# Altium footprint library PCB1.PcbLib: 19 footprints (part 1 of 2)
Each footprint in its own frame and in the unit in brackets; x right, y up, seen from the top. Pads: shape width x height; smd on the part's side, far side on the other; paste and mask are expansions set on the pad; w line width, h text height; cw(c..) or ccw(c..) is an arc to the next point about the centre after c.
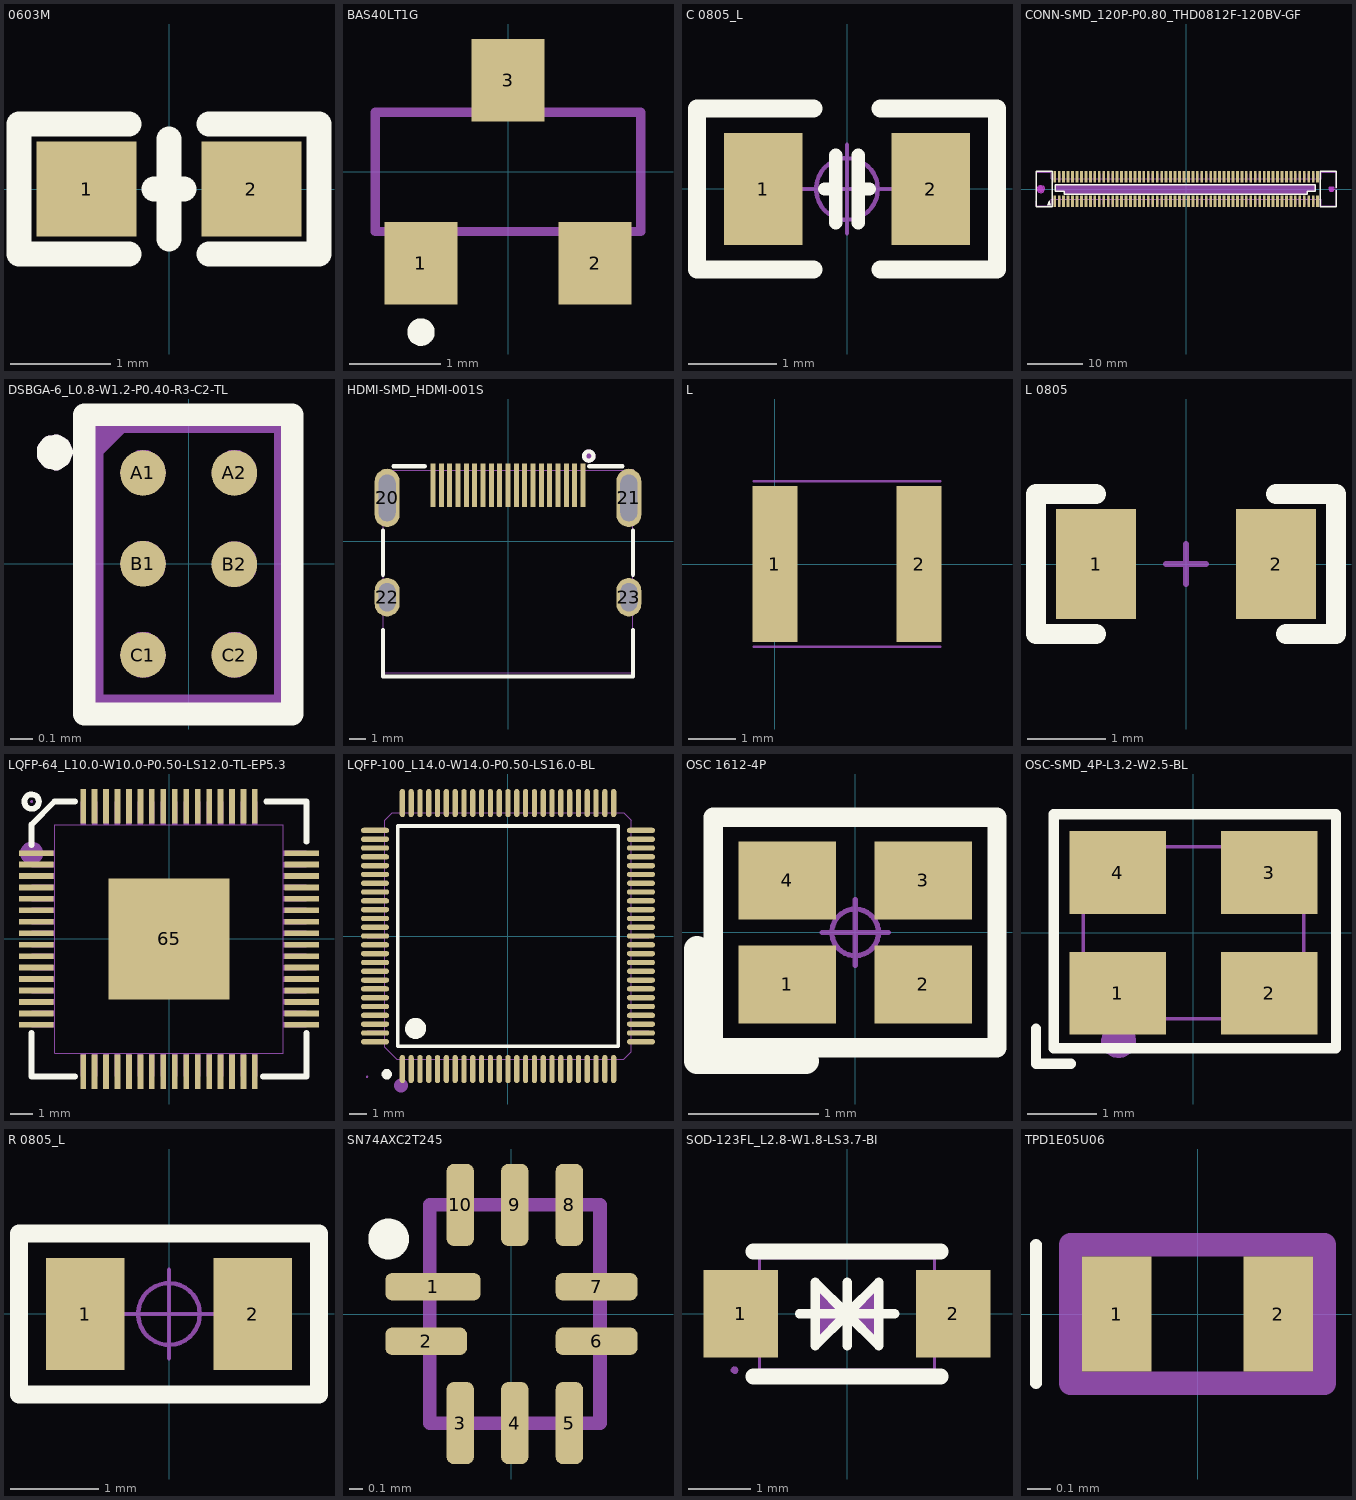
[diagram p0: the footprints below, top view; thin cyan lines are the x and y axes]

## 0603M [mm]
pads (2):
  rect 1x0.95 smd: 1(-0.825,0) 2(0.825,0)
Top Overlay:
  lines w0.254: -0.4,-0.65 -1.5,-0.65 -1.5,0.65 -0.4,0.65 ; -0.15,0 0.15,0 ; 0,-0.5 0,0.5 ; 0.4,-0.65 1.5,-0.65 1.5,0.65 0.4,0.65

## BAS40LT1G [mm]
pads (3):
  rect 0.8x0.9 smd: 1(-0.95,-1) 2(0.95,-1) 3(0,1)
Top Overlay:
  circle w0.15: c-0.95,-1.75 r0.075
Top Assembly:
  lines w0.1: -1.45,-0.65 1.45,-0.65 1.45,0.65 -1.45,0.65 -1.45,-0.65

## C 0805_L [mil] "无极性贴片电容                                        淘宝ID:黄晶宝石"
height 19.68
pads (2):
  rect 35x50 smd: 1(-37.4,0) 2(37.4,0)
Top Overlay:
  lines w6: -10,0 -5,0 ; -5,-15 -5,15 ; 5,-15 5,15 ; 5,0 10,0
  lines w8: -15,-36 -66.93,-36 -66.93,36 -15,36 ; 15,-36 66.93,-36 66.93,36 15,36
Mechanical 15:
  circle w1.97: c0,0 r13.78
  circle w1.97: c0,0 r13.78
  lines w1.97: -19.68,0 19.68,0 -19.68,0 ; 0,-19.68 0,19.68 0,-19.68
3D body "C 0805.STEP": height 20.08, standoff -0.39, extent -39.37,-24.02 39.37,24.02

## CONN-SMD_120P-P0.80_THD0812F-120BV-GF [mil]
pads (120):
  rect 19.7x78.7 smd paste+0 mask+2: 1(-929.1,-86.6) 2(-929.1,86.6) 3(-897.6,-86.6) 4(-897.6,86.6) 5(-866.1,-86.6) 6(-866.1,86.6) 7(-834.6,-86.6) 8(-834.6,86.6) 9(-803.1,-86.6) 10(-803.1,86.6) 11(-771.6,-86.6) 12(-771.6,86.6) 13(-740.1,-86.6) 14(-740.1,86.6) 15(-708.6,-86.6) 16(-708.6,86.6) 17(-677.2,-86.6) 18(-677.2,86.6) 19(-645.7,-86.6) 20(-645.7,86.6) 21(-614.2,-86.6) 22(-614.2,86.6) 23(-582.7,-86.6) 24(-582.7,86.6) 25(-551.2,-86.6) 26(-551.2,86.6) 27(-519.7,-86.6) 28(-519.7,86.6) 29(-488.2,-86.6) 30(-488.2,86.6) 31(-456.7,-86.6) 32(-456.7,86.6) 33(-425.2,-86.6) 34(-425.2,86.6) 35(-393.7,-86.6) 36(-393.7,86.6) 37(-362.2,-86.6) 38(-362.2,86.6) 39(-330.7,-86.6) 40(-330.7,86.6) 41(-299.2,-86.6) 42(-299.2,86.6) 43(-267.7,-86.6) 44(-267.7,86.6) 45(-236.2,-86.6) 46(-236.2,86.6) 47(-204.7,-86.6) 48(-204.7,86.6) 49(-173.2,-86.6) 50(-173.2,86.6) 51(-141.7,-86.6) 52(-141.7,86.6) 53(-110.2,-86.6) 54(-110.2,86.6) 55(-78.7,-86.6) 56(-78.7,86.6) 57(-47.2,-86.6) 58(-47.2,86.6) 59(-15.7,-86.6) 60(-15.7,86.6) 61(15.8,-86.6) 62(15.8,86.6) 63(47.3,-86.6) 64(47.3,86.6) 65(78.8,-86.6) 66(78.8,86.6) 67(110.2,-86.6) 68(110.2,86.6) 69(141.7,-86.6) 70(141.7,86.6) 71(173.2,-86.6) 72(173.2,86.6) 73(204.7,-86.6) 74(204.7,86.6) 75(236.2,-86.6) 76(236.2,86.6) 77(267.7,-86.6) 78(267.7,86.6) 79(299.2,-86.6) 80(299.2,86.6) 81(330.7,-86.6) 82(330.7,86.6) 83(362.2,-86.6) 84(362.2,86.6) 85(393.7,-86.6) 86(393.7,86.6) 87(425.2,-86.6) 88(425.2,86.6) 89(456.7,-86.6) 90(456.7,86.6) 91(488.2,-86.6) 92(488.2,86.6) 93(519.7,-86.6) 94(519.7,86.6) 95(551.2,-86.6) 96(551.2,86.6) 97(582.7,-86.6) 98(582.7,86.6) 99(614.2,-86.6) 100(614.2,86.6) 101(645.7,-86.6) 102(645.7,86.6) 103(677.2,-86.6) 104(677.2,86.6) 105(708.7,-86.6) 106(708.7,86.6) 107(740.2,-86.6) 108(740.2,86.6) 109(771.7,-86.6) 110(771.7,86.6) 111(803.2,-86.6) 112(803.2,86.6) 113(834.7,-86.6) 114(834.7,86.6) 115(866.2,-86.6) 116(866.2,86.6) 117(897.7,-86.6) 118(897.7,86.6) 119(929.1,-86.6) 120(929.1,86.6)
Top Overlay:
  region: -980.3,-116.2 -956.7,-116.2 -968.5,-80.7
  lines w10: 1059.1,-10.3 1059.1,-126 948.1,-126 948.1,126 1059.1,126 1059.1,10.2 ; -1059,126 -948.1,126 ; -1059,126 -948.1,126 ; -1059,126 -1059,-126 -948.1,-126 -948.1,126 ; -925.2,-15.7 -925.2,31.5 913.4,31.5 913.4,-15.7 854.4,-15.7 854.4,-35.4 -862.2,-35.4 -862.2,-15.7 -925.2,-15.7
Keep-Out Layer:
  board cut-out: 1045.3,0 1044.9,-3.7 1043.8,-7.2 1041.9,-10.4 1039.4,-13.2 1036.4,-15.4 1033,-16.9 1029.4,-17.6 1025.7,-17.6 1022.1,-16.9 1018.7,-15.4 1015.7,-13.2 1013.2,-10.4 1011.4,-7.2 1010.2,-3.7 1009.9,0 1010.2,3.7 1011.4,7.2 1013.2,10.4 1015.7,13.2 1018.7,15.3 1022.1,16.8 1025.7,17.6 1029.4,17.6 1033,16.8 1036.4,15.3 1039.4,13.2 1041.9,10.4 1043.8,7.2 1044.9,3.7
  board cut-out: -1002,0 -1002.3,-4.5 -1003.5,-8.8 -1005.4,-12.8 -1007.9,-16.5 -1011.1,-19.6 -1014.8,-22.2 -1018.8,-24.1 -1023.1,-25.2 -1027.5,-25.6 -1032,-25.2 -1036.3,-24.1 -1040.3,-22.2 -1044,-19.6 -1047.2,-16.5 -1049.7,-12.8 -1051.6,-8.8 -1052.8,-4.5 -1053.1,0 -1052.8,4.4 -1051.6,8.7 -1049.7,12.8 -1047.2,16.4 -1044,19.6 -1040.3,22.1 -1036.3,24 -1032,25.2 -1027.5,25.6 -1023.1,25.2 -1018.8,24 -1014.8,22.1 -1011.1,19.6 -1007.9,16.4 -1005.4,12.8 -1003.5,8.7 -1002.3,4.4
Keep-Out Layer:
  drawing of 70 lines, arcs and shapes, not listed
Mechanical 1:
  lines w0.1: -1053.1,0 -1052.8,4.4 -1051.6,8.7 -1049.7,12.8 -1047.2,16.4 -1044,19.6 -1040.3,22.1 -1036.3,24 -1032,25.2 -1027.5,25.6 -1023.1,25.2 -1018.8,24 -1014.8,22.1 -1011.1,19.6 -1007.9,16.4 -1005.4,12.8 -1003.5,8.7 -1002.3,4.4 -1002,0 -1002.3,-4.5 -1003.5,-8.8 -1005.4,-12.8 -1007.9,-16.5 -1011.1,-19.6 -1014.8,-22.2 -1018.8,-24.1 -1023.1,-25.2 -1027.5,-25.6 -1032,-25.2 -1036.3,-24.1 -1040.3,-22.2 -1044,-19.6 -1047.2,-16.5 -1049.7,-12.8 -1051.6,-8.8 -1052.8,-4.5 -1053.1,0 ; 1009.9,0 1010.2,3.7 1011.4,7.2 1013.2,10.4 1015.7,13.2 1018.7,15.3 1022.1,16.8 1025.7,17.6 1029.4,17.6 1033,16.8 1036.4,15.3 1039.4,13.2 1041.9,10.4 1043.8,7.2 1044.9,3.7 1045.3,0 1044.9,-3.7 1043.8,-7.2 1041.9,-10.4 1039.4,-13.2 1036.4,-15.4 1033,-16.9 1029.4,-17.6 1025.7,-17.6 1022.1,-16.9 1018.7,-15.4 1015.7,-13.2 1013.2,-10.4 1011.4,-7.2 1010.2,-3.7 1009.9,0
Mechanical 2:
  region: -925.2,31.5 913.4,31.5 913.4,-15.8 854.3,-15.8 854.3,-35.4 -858.3,-35.4 -858.3,-15.8 -925.2,-15.8 -925.2,-11.8
  lines w13.8: 1020.8,-1.2 1020.8,1.1 1021.5,3.3 1022.9,5.1 1024.8,6.3 1027,6.9 1029.3,6.7 1031.3,5.8 1033,4.2 1034.1,2.2 1034.5,0 1034.1,-2.3 1033,-4.2 1031.3,-5.8 1029.3,-6.7 1027,-6.9 1024.8,-6.3 1022.9,-5.1 1021.5,-3.3 1020.8,-1.2
  lines w20.7: -1037.8,-1.4 -1037.8,1.4 -1037,4.1 -1035.6,6.5 -1033.5,8.4 -1031,9.7 -1028.3,10.3 -1025.4,10.1 -1022.8,9.2 -1020.5,7.6 -1018.7,5.4 -1017.6,2.8 -1017.2,0 -1017.6,-2.8 -1018.7,-5.4 -1020.5,-7.6 -1022.8,-9.2 -1025.4,-10.2 -1028.3,-10.3 -1031,-9.8 -1033.5,-8.5 -1035.6,-6.6 -1037,-4.1 -1037.8,-1.4
Mechanical 6:
  lines w2: -1059.2,118.9 -1058.9,-88.7 -1058.9,-118.1 -954.8,-118.1 -954.8,-73.8 954.2,-73.8 954.2,-118.2 1059.1,-118.2 1059.1,118.1 954.8,118.1 954.8,74.2 -954.8,74.2 -954.8,118.9 -1059.2,118.9
Mechanical 8:
  region: -1056.9,-118.2 -1057.3,-119.5 -1058.3,-120.4 -1059.6,-120.6 -1060.8,-120 -1061.5,-118.9 -1061.5,-117.6 -1060.8,-116.4 -1059.6,-115.9 -1058.3,-116.1 -1057.3,-117
Mechanical 9:
  drawing of 120 lines, arcs and shapes, not listed

## DSBGA-6_L0.8-W1.2-P0.40-R3-C2-TL [mil]
pads (6):
  round 7.9 smd: A1(-7.9,15.7) A2(7.9,15.7) B1(-7.9,0) B2(7.9,-0.1) C1(-7.9,-15.8) C2(7.9,-15.8)
Top Overlay:
  lines w3.1: -24.7,18.7 -24.7,19.8 -24,20.6 -22.9,20.8 -22,20.3 -21.6,19.3 -22,18.3 -22.9,17.7 -24,17.9 -24.7,18.7
  lines w3.9: -18.1,-26 -18.1,25.8 17.9,25.8 17.9,-26 -18.1,-26
Mechanical 2:
  region: -17.7,24.4 -17.7,16.1 -9.4,24.4
  lines w3.1: -24.7,18.7 -24.7,19.8 -24,20.6 -22.9,20.8 -22,20.3 -21.6,19.3 -22,18.3 -22.9,17.7 -24,17.9 -24.7,18.7
Mechanical 6:
  lines w2: -15.7,-23.6 15.8,-23.6 15.8,23.6 -15.7,23.6 -15.7,-23.6
Mechanical 8:
  region: -13.4,23.6 -13.8,22.3 -14.8,21.5 -16.1,21.3 -17.3,21.8 -18,22.9 -18,24.3 -17.3,25.4 -16.1,25.9 -14.8,25.8 -13.8,24.9
Mechanical 9:
  region: -4,15.7 -4.3,14 -5.4,12.7 -7,11.9 -8.8,11.9 -10.3,12.7 -11.4,14 -11.8,15.7 -11.4,17.4 -10.3,18.8 -8.8,19.6 -7,19.6 -5.4,18.8 -4.3,17.4
  region: 11.8,15.7 11.5,14 10.4,12.7 8.8,11.9 7,11.9 5.5,12.7 4.4,14 4,15.7 4.4,17.4 5.5,18.8 7,19.6 8.8,19.6 10.4,18.8 11.5,17.4
  region: -4,0 -4.3,-1.7 -5.4,-3 -7,-3.8 -8.8,-3.8 -10.3,-3 -11.4,-1.7 -11.8,0 -11.4,1.7 -10.3,3.1 -8.8,3.9 -7,3.9 -5.4,3.1 -4.3,1.7
  region: 11.8,-0.1 11.5,-1.8 10.4,-3.1 8.8,-3.9 7,-3.9 5.5,-3.1 4.4,-1.8 4,-0.1 4.4,1.6 5.5,3 7,3.8 8.8,3.8 10.4,3 11.5,1.6
  region: -4,-15.8 -4.3,-17.5 -5.4,-18.8 -7,-19.6 -8.8,-19.6 -10.3,-18.8 -11.4,-17.5 -11.8,-15.8 -11.4,-14.1 -10.3,-12.7 -8.8,-11.9 -7,-11.9 -5.4,-12.7 -4.3,-14.1
  region: 11.8,-15.8 11.5,-17.5 10.4,-18.8 8.8,-19.6 7,-19.6 5.5,-18.8 4.4,-17.5 4,-15.8 4.4,-14.1 5.5,-12.7 7,-11.9 8.8,-11.9 10.4,-12.7 11.5,-14.1

## HDMI-SMD_HDMI-001S [mil]
pads (23):
  rect 11.8x102.4 smd paste-3937 mask+2: 1(177.1,132.3) 2(157.4,132.3) 3(137.7,132.3) 4(118.1,132.3) 5(98.4,132.3) 6(78.7,132.3) 7(59,132.3) 8(39.3,132.3) 9(19.6,132.3) 10(0,132.3) 11(-19.7,132.3) 12(-39.4,132.3) 13(-59.1,132.3) 14(-78.8,132.3) 15(-98.5,132.3) 16(-118.2,132.3) 17(-137.8,132.3) 18(-157.5,132.3) 19(-177.2,132.3)
  oval 59.1x137.8 hole 39.4 slot 110.2 at 90 deg: 20(-285.5,102.4) 21(285.4,102.4)
  oval 59.1x90.6 hole 39.4 slot 66.9 at 90 deg: 22(-285.5,-132.2) 23(285.4,-132.2)
Top Overlay:
  lines w10: -295.3,-209.8 -295.3,-319.7 295.2,-319.7 295.2,-209.8 ; -295.3,-79.1 -295.3,25.7 ; -270.3,177.2 -196.9,177.2 ; 192.1,177.2 270.2,177.2 ; 295.2,-79.1 295.2,25.7 ; 179.9,201.2 180.3,204.1 181.4,206.7 183.1,209 185.4,210.8 188,211.9 190.9,212.2 193.7,211.9 196.4,210.8 198.7,209 200.4,206.7 201.5,204.1 201.9,201.2 201.5,198.4 200.4,195.7 198.7,193.4 196.4,191.7 193.7,190.6 190.9,190.2 188,190.6 185.4,191.7 183.1,193.4 181.4,195.7 180.3,198.4 179.9,201.2
Top Paste:
  drawing of 23 lines, arcs and shapes, not listed
Mechanical 2:
  lines w15.7: 183,201.2 183.4,203.7 184.5,205.8 186.3,207.6 188.5,208.7 190.9,209.1 193.3,208.7 195.5,207.6 197.3,205.8 198.4,203.7 198.8,201.2 198.4,198.8 197.3,196.6 195.5,194.9 193.3,193.7 190.9,193.4 188.5,193.7 186.3,194.9 184.5,196.6 183.4,198.8 183,201.2
Mechanical 6:
  lines w2: -295.3,-311 295.2,-311 295.2,167.4 -295.3,167.4 -295.3,-311
Mechanical 8:
  region: 297.6,167.4 297.2,166.1 296.2,165.2 294.9,165 293.7,165.6 293,166.7 293,168 293.7,169.1 294.9,169.7 296.2,169.5 297.2,168.6
Mechanical 9:
  region: -295.3,-112.6 -275.6,-112.6 -275.6,-151.9 -295.3,-151.9
  region: 275.5,-112.6 295.2,-112.6 295.2,-151.9 275.5,-151.9
  region: 275.5,141.8 295.2,141.8 295.2,63 275.5,63
  region: -295.3,141.8 -275.6,141.8 -275.6,63 -295.3,63
  region: 173.2,157.9 181.1,157.9 181.1,87 173.2,87
  region: 153.5,157.9 161.4,157.9 161.4,87 153.5,87
  region: 133.8,157.9 141.7,157.9 141.7,87 133.8,87
  region: 114.1,157.9 122,157.9 122,87 114.1,87
  region: 94.4,157.9 102.3,157.9 102.3,87 94.4,87
  region: 74.8,157.9 82.6,157.9 82.6,87 74.8,87
  region: 55.1,157.9 62.9,157.9 62.9,87 55.1,87
  region: 35.4,157.9 43.3,157.9 43.3,87 35.4,87
  region: 15.7,157.9 23.6,157.9 23.6,87 15.7,87
  region: -4,157.9 3.9,157.9 3.9,87 -4,87
  region: -23.7,157.9 -15.8,157.9 -15.8,87 -23.7,87
  region: -43.4,157.9 -35.5,157.9 -35.5,87 -43.4,87
  region: -63,157.9 -55.2,157.9 -55.2,87 -63,87
  region: -82.7,157.9 -74.9,157.9 -74.9,87 -82.7,87
  region: -102.4,157.9 -94.5,157.9 -94.5,87 -102.4,87
  region: -122.1,157.9 -114.2,157.9 -114.2,87 -122.1,87
  region: -141.8,157.9 -133.9,157.9 -133.9,87 -141.8,87
  region: -161.5,157.9 -153.6,157.9 -153.6,87 -161.5,87
  region: -181.2,157.9 -173.3,157.9 -173.3,87 -181.2,87

## L [mm] "电感"
pads (2):
  rect 0.95x3.3 smd: 1(0,0) 2(3.05,0)
Top Assembly:
  lines w0.05: -0.45,-1.75 3.5,-1.75 ; -0.45,1.75 3.5,1.75

## L 0805 [mil] "小功率贴片电感        淘宝ID:黄晶宝石"
pads (2):
  rect 40x55 smd: 1(-45,0) 2(45,0)
Top Overlay:
  lines w10: -45,-35 -75,-35 -75,35 -45,35 ; 45,35 75,35 75,-35 50,-35
Mechanical 15:
  lines w3: -10,0 10,0 ; 0,-10 0,10
3D body "0805.STEP": height 35.43, standoff -0.11, extent -39.37,-23.62 39.37,23.62

## LQFP-64_L10.0-W10.0-P0.50-LS12.0-TL-EP5.3 [mil]
pads (65):
  rect 59.1x9.8 smd: 1(-228.4,147.6) 2(-228.4,127.9) 3(-228.4,108.2) 4(-228.4,88.6) 5(-228.4,68.9) 6(-228.4,49.2) 7(-228.4,29.5) 8(-228.4,9.8) 9(-228.4,-9.9) 10(-228.4,-29.6) 11(-228.4,-49.2) 12(-228.4,-68.9) 13(-228.4,-88.6) 14(-228.4,-108.3) 15(-228.4,-128) 16(-228.4,-147.7) 33(228.3,-147.7) 34(228.3,-128) 35(228.3,-108.3) 36(228.3,-88.6) 37(228.3,-68.9) 38(228.3,-49.2) 39(228.3,-29.6) 40(228.3,-9.9) 41(228.3,9.8) 42(228.3,29.5) 43(228.3,49.2) 44(228.3,68.9) 45(228.3,88.6) 46(228.3,108.2) 47(228.3,127.9) 48(228.3,147.6)
  rect 9.8x59.1 smd: 17(-147.7,-228.4) 18(-128,-228.4) 19(-108.3,-228.4) 20(-88.6,-228.4) 21(-68.9,-228.4) 22(-49.2,-228.4) 23(-29.6,-228.4) 24(-9.9,-228.4) 25(9.8,-228.4) 26(29.5,-228.4) 27(49.2,-228.4) 28(68.9,-228.4) 29(88.6,-228.4) 30(108.2,-228.4) 31(127.9,-228.4) 32(147.6,-228.4) 49(147.6,228.3) 50(127.9,228.3) 51(108.2,228.3) 52(88.6,228.3) 53(68.9,228.3) 54(49.2,228.3) 55(29.5,228.3) 56(9.8,228.3) 57(-9.9,228.3) 58(-29.6,228.3) 59(-49.2,228.3) 60(-68.9,228.3) 61(-88.6,228.3) 62(-108.3,228.3) 63(-128,228.3) 64(-147.7,228.3)
  rect 208.7x208.7 smd: 65(0,0)
Top Overlay:
  lines w10: -236.2,-161.7 -236.2,-236.2 -161.7,-236.2 ; -236.2,161.6 -236.2,196.8 -196.9,236.2 -161.7,236.2 ; 161.6,-236.2 236.2,-236.2 236.2,-161.7 ; 167.3,236.2 236.2,236.2 236.2,167.3 ; -248.6,234.6 -248.6,237.8 -247.8,240.8 -246.3,243.5 -244.2,245.8 -241.5,247.5 -238.6,248.4 -235.5,248.6 -232.4,248 -229.6,246.7 -227.2,244.7 -225.3,242.2 -224.2,239.3 -223.8,236.2 -224.2,233.1 -225.3,230.2 -227.2,227.7 -229.6,225.7 -232.4,224.4 -235.5,223.8 -238.6,224 -241.5,224.9 -244.2,226.6 -246.3,228.9 -247.8,231.6 -248.6,234.6
Mechanical 2:
  lines w19.7: -246,146.3 -246,149 -245.3,151.5 -243.9,153.8 -241.9,155.7 -239.5,156.9 -236.9,157.4 -234.2,157.3 -231.7,156.4 -229.5,154.8 -227.8,152.7 -226.8,150.3 -226.4,147.6 -226.8,145 -227.8,142.5 -229.5,140.4 -231.7,138.9 -234.2,138 -236.9,137.8 -239.5,138.3 -241.9,139.6 -243.9,141.4 -245.3,143.7 -246,146.3
Mechanical 6:
  lines w2: -196.9,-196.9 -196.9,196.8 196.8,196.8 196.8,-196.9 -196.9,-196.9
Mechanical 7:
  drawing of 64 lines, arcs and shapes, not listed
Mechanical 8:
  region: -233.9,236.2 -234.3,234.9 -235.3,234 -236.6,233.9 -237.8,234.4 -238.5,235.5 -238.5,236.9 -237.8,238 -236.6,238.5 -235.3,238.3 -234.3,237.5
Mechanical 9:
  drawing of 65 lines, arcs and shapes, not listed

## LQFP-100_L14.0-W14.0-P0.50-LS16.0-BL [mil]
pads (100):
  oval 11.8x63 smd: 1(-236.2,-297.3) 2(-216.5,-297.3) 3(-196.8,-297.3) 4(-177.1,-297.3) 5(-157.4,-297.3) 6(-137.8,-297.3) 7(-118.1,-297.3) 8(-98.4,-297.3) 9(-78.7,-297.3) 10(-59,-297.3) 11(-39.3,-297.3) 12(-19.6,-297.3) 13(0,-297.3) 14(19.7,-297.3) 15(39.4,-297.3) 16(59.1,-297.3) 17(78.8,-297.3) 18(98.5,-297.3) 19(118.1,-297.3) 20(137.8,-297.3) 21(157.5,-297.3) 22(177.2,-297.3) 23(196.9,-297.3) 24(216.6,-297.3) 25(236.3,-297.3) 51(236.3,297.2) 52(216.6,297.2) 53(196.9,297.2) 54(177.2,297.2) 55(157.5,297.2) 56(137.8,297.2) 57(118.1,297.2) 58(98.5,297.2) 59(78.8,297.2) 60(59.1,297.2) 61(39.4,297.2) 62(19.7,297.2) 63(0,297.2) 64(-19.6,297.2) 65(-39.3,297.2) 66(-59,297.2) 67(-78.7,297.2) 68(-98.4,297.2) 69(-118.1,297.2) 70(-137.8,297.2) 71(-157.4,297.2) 72(-177.1,297.2) 73(-196.8,297.2) 74(-216.5,297.2) 75(-236.2,297.2)
  oval 63x11.8 smd: 26(297.3,-236.2) 27(297.3,-216.6) 28(297.3,-196.9) 29(297.3,-177.2) 30(297.3,-157.5) 31(297.3,-137.8) 32(297.3,-118.1) 33(297.3,-98.5) 34(297.3,-78.8) 35(297.3,-59.1) 36(297.3,-39.4) 37(297.3,-19.7) 38(297.3,0) 39(297.3,19.7) 40(297.3,39.3) 41(297.3,59) 42(297.3,78.7) 43(297.3,98.4) 44(297.3,118.1) 45(297.3,137.8) 46(297.3,157.4) 47(297.3,177.1) 48(297.3,196.8) 49(297.3,216.5) 50(297.3,236.2) 76(-297.2,236.2) 77(-297.2,216.5) 78(-297.2,196.8) 79(-297.2,177.1) 80(-297.2,157.4) 81(-297.2,137.8) 82(-297.2,118.1) 83(-297.2,98.4) 84(-297.2,78.7) 85(-297.2,59) 86(-297.2,39.3) 87(-297.2,19.7) 88(-297.2,0) 89(-297.2,-19.7) 90(-297.2,-39.4) 91(-297.2,-59.1) 92(-297.2,-78.8) 93(-297.2,-98.5) 94(-297.2,-118.1) 95(-297.2,-137.8) 96(-297.2,-157.5) 97(-297.2,-177.2) 98(-297.2,-196.9) 99(-297.2,-216.6) 100(-297.2,-236.2)
Top Overlay:
  lines w7.9: -246,-246.1 246.1,-246.1 246.1,246 -246,246 -246,-246.1
  lines w11.8: -271,-303 -273,-303.4 -274.7,-304.4 -276,-306 -276.7,-307.9 -276.7,-310 -276,-311.9 -274.7,-313.5 -272.9,-314.5 -270.9,-314.8 -268.9,-314.5 -267.1,-313.5 -265.8,-311.9 -265.1,-310 -265.1,-307.9 -265.8,-306 -267.1,-304.4 -268.9,-303.4 -270.9,-303
  lines w23.6: -206.7,-194.9 -209.6,-195.3 -212.3,-196.4 -214.7,-198.2 -216.6,-200.5 -217.8,-203.1 -218.4,-206.1 -218.2,-209 -217.2,-211.8 -215.6,-214.3 -213.5,-216.3 -210.9,-217.7 -208,-218.5 -205.1,-218.5 -202.2,-217.7 -199.6,-216.3 -197.5,-214.3 -195.9,-211.8 -195,-209 -194.8,-206.1 -195.3,-203.1 -196.6,-200.5 -198.4,-198.2 -200.8,-196.4 -203.5,-195.3 -206.5,-194.9
Mechanical 2:
  lines w15.7: -246.8,-334 -246.4,-331.6 -245.3,-329.4 -243.6,-327.7 -241.4,-326.5 -239,-326.2 -236.5,-326.5 -234.3,-327.7 -232.6,-329.4 -231.5,-331.6 -231.1,-334 -231.5,-336.5 -232.6,-338.7 -234.3,-340.4 -236.5,-341.5 -239,-341.9 -241.4,-341.5 -243.6,-340.4 -245.3,-338.7 -246.4,-336.5 -246.8,-334
Mechanical 6:
  lines w2: -275.6,-248.8 -275.6,258.6 -258.6,275.6 258.7,275.6 275.6,258.6 275.6,-258.7 258.7,-275.6 -248.8,-275.6 -275.6,-248.8
Mechanical 7:
  drawing of 100 lines, arcs and shapes, not listed
Mechanical 8:
  region: -312.6,-315 -312.9,-316.3 -313.9,-317.1 -315.3,-317.3 -316.5,-316.8 -317.2,-315.7 -317.2,-314.3 -316.5,-313.2 -315.3,-312.7 -313.9,-312.8 -312.9,-313.7
Mechanical 9:
  drawing of 100 lines, arcs and shapes, not listed

## OSC 1612-4P [mm] "1.6*1.2*0.35mm（长宽高）                    淘宝ID:黄晶宝石"
pads (4):
  rect 0.75x0.6 smd: 1(-0.525,-0.4) 2(0.525,-0.4) 3(0.525,0.4) 4(-0.525,0.4)
Top Overlay:
  lines w0.15: -1.092,-0.889 1.092,-0.889 1.092,0.889 -1.092,0.889 -1.092,-0.889
  lines w0.2: -1.219,-0.991 -0.381,-0.991 ; -1.219,-0.965 -1.219,-0.127
Mechanical 15:
  circle w0.04: c0,0 r0.18
  lines w0.04: -0.254,0 0.254,0 ; 0,-0.254 0,0.254
3D body "OSC 1612-4.STEP": height 0.35, standoff -0.02, extent -0.8,-0.6 0.8,0.6

## OSC-SMD_4P-L3.2-W2.5-BL [mil]
pads (4):
  rect 55.1x47.2 smd: 1(-43.3,-34.5) 2(43.3,-34.5) 3(43.3,34.4) 4(-43.3,34.4)
Top Overlay:
  lines w6: -90,-55 -90,-75 -70,-75 ; -79.9,-66.1 81.5,-66.1 81.5,67.8 -79.9,67.8 -79.9,-66.1
Mechanical 2:
  region: -57.8,32.3 -32.8,32.3 -32.8,37.3 -57.8,37.3
  region: -47.5,47.5 -47.5,22.5 -42.5,22.5 -42.5,47.5
  region: -68.4,-21.1 -67,-21.1 -67,-23.9 -68.4,-23.9
  region: -67,-21.1 -65.6,-21.1 -65.6,-23.9 -67,-23.9
  region: -65.6,-19.7 -64.2,-19.7 -64.2,-23.9 -65.6,-23.9
  region: -64.2,-18.3 -62.8,-18.3 -62.8,-22.5 -64.2,-22.5
  region: -62.8,-18.3 -61.3,-18.3 -61.3,-39.5 -62.8,-39.5
  region: -61.3,-16.8 -59.9,-16.8 -59.9,-39.5 -61.3,-39.5
  region: -59.9,-16.8 -58.5,-16.8 -58.5,-39.5 -59.9,-39.5
  region: -58.5,-16.8 -57.1,-16.8 -57.1,-39.5 -58.5,-39.5
  lines w10: -47.8,-61.7 -47.4,-59.8 -46.4,-58.2 -44.7,-57.1 -42.8,-56.7 -40.9,-57.1 -39.3,-58.2 -38.2,-59.8 -37.8,-61.7 -38.2,-63.6 -39.3,-65.2 -40.9,-66.3 -42.8,-66.7 -44.7,-66.3 -46.4,-65.2 -47.4,-63.6 -47.8,-61.7
Mechanical 6:
  lines w2: -63,-49.2 63,-49.2 63,49.2 -63,49.2 -63,-49.2
Mechanical 8:
  region: -60.6,-49.2 -61,-50.5 -62,-51.4 -63.3,-51.6 -64.5,-51 -65.3,-49.9 -65.3,-48.5 -64.5,-47.4 -63.3,-46.9 -62,-47.1 -61,-47.9
Mechanical 9:
  region: 23.6,-17.7 59.1,-17.7 59.1,-49.2 23.6,-49.2
  region: -59.1,-17.7 -23.6,-17.7 -23.6,-49.2 -59.1,-49.2
  region: -59.1,49.2 -23.6,49.2 -23.6,17.7 -59.1,17.7
  region: 23.6,49.2 59.1,49.2 59.1,17.7 23.6,17.7

## R 0805_L [mil] "1/8W贴片电阻"
pads (2):
  rect 35x50 smd: 1(-37.4,0) 2(37.4,0)
Top Overlay:
  lines w8: -66.93,-36 66.93,-36 66.93,36 -66.93,36 -66.93,-36
Mechanical 15:
  circle w1.97: c0,0 r13.78
  lines w1.97: -19.68,0 19.68,0 ; 0,-19.68 0,19.68
3D body "R 0805.STEP": height 19.72, standoff -0.24, extent -39.37,-24.6 39.37,24.61

## SN74AXC2T245 [mm]
pads (10):
  rrect50% 0.7x0.2 smd mask+0.05: 1(-0.575,0.2)
  rrect50% 0.6x0.2 smd mask+0.05: 2(-0.625,-0.2) 6(0.625,-0.2) 7(0.625,0.2)
  rrect50% 0.2x0.6 smd mask+0.05: 3(-0.375,-0.8) 4(0.025,-0.8) 5(0.425,-0.8) 8(0.425,0.8) 9(0.025,0.8) 10(-0.375,0.8)
Top Overlay:
  circle w0.15: c-0.9,0.55 r0.075
Top Assembly:
  lines w0.1: -0.6,-0.8 0.65,-0.8 0.65,0.8 -0.6,0.8 -0.6,-0.8

## SOD-123FL_L2.8-W1.8-LS3.7-BI [mil]
pads (2):
  rect 47.2x55.1 smd: 1(-67,0) 2(66.9,0)
Top Overlay:
  lines w5.9: -30,0 30,0 ; 0,-20 0,20 ; 0,-10 0,10 ; 0,0 -20,20 -20,-20 0,0 ; 0,0 20,-20 20,20 0,0
  lines w10: -59.1,-39.4 59,-39.4 ; -59.1,39.3 59,39.3
Mechanical 2:
  region: 19.6,-19.7 19.6,19.7 0,0
  region: -19.7,19.7 -19.7,-19.7 0,0
Mechanical 6:
  lines w2: -55.2,-35.5 -55.2,35.4 55.1,35.4 55.1,-35.5 -55.2,-35.5
Mechanical 8:
  region: -68.6,-35.5 -68.9,-36.7 -69.9,-37.6 -71.3,-37.8 -72.5,-37.2 -73.2,-36.1 -73.2,-34.8 -72.5,-33.7 -71.3,-33.1 -69.9,-33.3 -68.9,-34.2
Mechanical 9:
  region: 50.2,19.7 70.8,19.7 70.8,-19.7 50.2,-19.7
  region: -70.9,19.7 -50.2,19.7 -50.2,-19.7 -70.9,-19.7

## TPD1E05U06 [mm] "TPD1E05U06"
pads (2):
  rect 0.3x0.5 smd: 1(-0.35,0) 2(0.35,0)
Top Overlay:
  lines w0.05: -0.7,-0.3 -0.7,0.3
Mechanical 15:
  lines w0.1: -0.55,-0.3 0.55,-0.3 0.55,0.3 -0.55,0.3 -0.55,-0.3